# Altium footprint library Bluetechnix_Footprint_CM-BF5xx.PcbLib: 2 footprints
Each footprint in its own frame and in the unit in brackets; x right, y up, seen from the top. Pads: shape width x height; smd on the part's side, far side on the other; paste and mask are expansions set on the pad; w line width, h text height; cw(c..) or ccw(c..) is an arc to the next point about the centre after c.
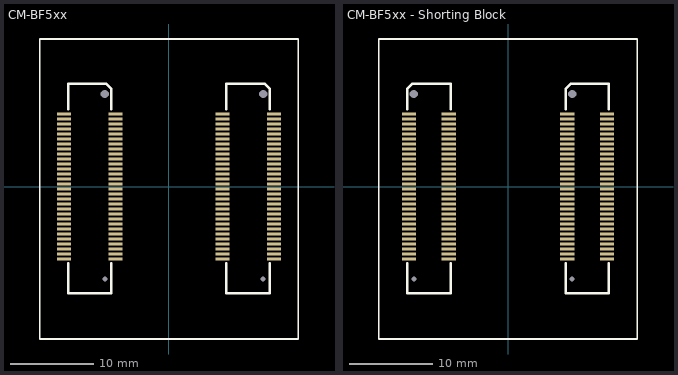
[diagram p0: the footprints below, top view; thin cyan lines are the x and y axes]

## CM-BF5xx [mm] "Blackfin CoreModule 5xx with Hirose Connectors"
height 5
pads (124):
  rect 1.7x0.35 smd: 1(-6.4,8.7) 2(-6.4,8.1) 3(-6.4,7.5) 4(-6.4,6.9) 5(-6.4,6.3) 6(-6.4,5.7) 7(-6.4,5.1) 8(-6.4,4.5) 9(-6.4,3.9) 10(-6.4,3.3) 11(-6.4,2.7) 12(-6.4,2.1) 13(-6.4,1.5) 14(-6.4,0.9) 15(-6.4,0.3) 16(-6.4,-0.3) 17(-6.4,-0.9) 18(-6.4,-1.5) 19(-6.4,-2.1) 20(-6.4,-2.7) 21(-6.4,-3.3) 22(-6.4,-3.9) 23(-6.4,-4.5) 24(-6.4,-5.1) 25(-6.4,-5.7) 26(-6.4,-6.3) 27(-6.4,-6.9) 28(-6.4,-7.5) 29(-6.4,-8.1) 30(-6.4,-8.7) 31(-12.6,-8.7) 32(-12.6,-8.1) 33(-12.6,-7.5) 34(-12.6,-6.9) 35(-12.6,-6.3) 36(-12.6,-5.7) 37(-12.6,-5.1) 38(-12.6,-4.5) 39(-12.6,-3.9) 40(-12.6,-3.3) 41(-12.6,-2.7) 42(-12.6,-2.1) 43(-12.6,-1.5) 44(-12.6,-0.9) 45(-12.6,-0.3) 46(-12.6,0.3) 47(-12.6,0.9) 48(-12.6,1.5) 49(-12.6,2.1) 50(-12.6,2.7) 51(-12.6,3.3) 52(-12.6,3.9) 53(-12.6,4.5) 54(-12.6,5.1) 55(-12.6,5.7) 56(-12.6,6.3) 57(-12.6,6.9) 58(-12.6,7.5) 59(-12.6,8.1) 60(-12.6,8.7) 61(12.6,8.7) 62(12.6,8.1) 63(12.6,7.5) 64(12.6,6.9) 65(12.6,6.3) 66(12.6,5.7) 67(12.6,5.1) 68(12.6,4.5) 69(12.6,3.9) 70(12.6,3.3) 71(12.6,2.7) 72(12.6,2.1) 73(12.6,1.5) 74(12.6,0.9) 75(12.6,0.3) 76(12.6,-0.3) 77(12.6,-0.9) 78(12.6,-1.5) 79(12.6,-2.1) 80(12.6,-2.7) 81(12.6,-3.3) 82(12.6,-3.9) 83(12.6,-4.5) 84(12.6,-5.1) 85(12.6,-5.7) 86(12.6,-6.3) 87(12.6,-6.9) 88(12.6,-7.5) 89(12.6,-8.1) 90(12.6,-8.7) 91(6.4,-8.7) 92(6.4,-8.1) 93(6.4,-7.5) 94(6.4,-6.9) 95(6.4,-6.3) 96(6.4,-5.7) 97(6.4,-5.1) 98(6.4,-4.5) 99(6.4,-3.9) 100(6.4,-3.3) 101(6.4,-2.7) 102(6.4,-2.1) 103(6.4,-1.5) 104(6.4,-0.9) 105(6.4,-0.3) 106(6.4,0.3) 107(6.4,0.9) 108(6.4,1.5) 109(6.4,2.1) 110(6.4,2.7) 111(6.4,3.3) 112(6.4,3.9) 113(6.4,4.5) 114(6.4,5.1) 115(6.4,5.7) 116(6.4,6.3) 117(6.4,6.9) 118(6.4,7.5) 119(6.4,8.1) 120(6.4,8.7)
  round 0 hole 1 unplated: Hole1(-7.7,11.1) Hole1(11.3,11.1)
  round 0 hole 0.6 unplated: Hole2(-7.7,-11.1) Hole2(11.3,-11.1)
Top Overlay:
  lines w0.2: -15.5,-18.3 15.5,-18.3 15.5,17.7 -15.5,17.7 -15.5,-18.3
  lines w0.3: -12.1,-9.2 -12.1,-12.8 -6.9,-12.8 -6.9,-9.2 ; -12.1,9.3 -12.1,12.3 -7.5,12.3 -6.9,11.7 -6.9,9.3 ; 6.9,-9.2 6.9,-12.8 12.1,-12.8 12.1,-9.2 ; 6.9,9.3 6.9,12.3 11.5,12.3 12.1,11.7 12.1,9.3

## CM-BF5xx - Shorting Block [mm] "For jumper board that replaces BF module"
height 5
pads (124):
  rect 1.7x0.35 smd: 1(7.1,8.7) 2(7.1,8.1) 3(7.1,7.5) 4(7.1,6.9) 5(7.1,6.3) 6(7.1,5.7) 7(7.1,5.1) 8(7.1,4.5) 9(7.1,3.9) 10(7.1,3.3) 11(7.1,2.7) 12(7.1,2.1) 13(7.1,1.5) 14(7.1,0.9) 15(7.1,0.3) 16(7.1,-0.3) 17(7.1,-0.9) 18(7.1,-1.5) 19(7.1,-2.1) 20(7.1,-2.7) 21(7.1,-3.3) 22(7.1,-3.9) 23(7.1,-4.5) 24(7.1,-5.1) 25(7.1,-5.7) 26(7.1,-6.3) 27(7.1,-6.9) 28(7.1,-7.5) 29(7.1,-8.1) 30(7.1,-8.7) 31(11.9,-8.7) 32(11.9,-8.1) 33(11.9,-7.5) 34(11.9,-6.9) 35(11.9,-6.3) 36(11.9,-5.7) 37(11.9,-5.1) 38(11.9,-4.5) 39(11.9,-3.9) 40(11.9,-3.3) 41(11.9,-2.7) 42(11.9,-2.1) 43(11.9,-1.5) 44(11.9,-0.9) 45(11.9,-0.3) 46(11.9,0.3) 47(11.9,0.9) 48(11.9,1.5) 49(11.9,2.1) 50(11.9,2.7) 51(11.9,3.3) 52(11.9,3.9) 53(11.9,4.5) 54(11.9,5.1) 55(11.9,5.7) 56(11.9,6.3) 57(11.9,6.9) 58(11.9,7.5) 59(11.9,8.1) 60(11.9,8.7) 61(-11.9,8.7) 62(-11.9,8.1) 63(-11.9,7.5) 64(-11.9,6.9) 65(-11.9,6.3) 66(-11.9,5.7) 67(-11.9,5.1) 68(-11.9,4.5) 69(-11.9,3.9) 70(-11.9,3.3) 71(-11.9,2.7) 72(-11.9,2.1) 73(-11.9,1.5) 74(-11.9,0.9) 75(-11.9,0.3) 76(-11.9,-0.3) 77(-11.9,-0.9) 78(-11.9,-1.5) 79(-11.9,-2.1) 80(-11.9,-2.7) 81(-11.9,-3.3) 82(-11.9,-3.9) 83(-11.9,-4.5) 84(-11.9,-5.1) 85(-11.9,-5.7) 86(-11.9,-6.3) 87(-11.9,-6.9) 88(-11.9,-7.5) 89(-11.9,-8.1) 90(-11.9,-8.7) 91(-7.1,-8.7) 92(-7.1,-8.1) 93(-7.1,-7.5) 94(-7.1,-6.9) 95(-7.1,-6.3) 96(-7.1,-5.7) 97(-7.1,-5.1) 98(-7.1,-4.5) 99(-7.1,-3.9) 100(-7.1,-3.3) 101(-7.1,-2.7) 102(-7.1,-2.1) 103(-7.1,-1.5) 104(-7.1,-0.9) 105(-7.1,-0.3) 106(-7.1,0.3) 107(-7.1,0.9) 108(-7.1,1.5) 109(-7.1,2.1) 110(-7.1,2.7) 111(-7.1,3.3) 112(-7.1,3.9) 113(-7.1,4.5) 114(-7.1,5.1) 115(-7.1,5.7) 116(-7.1,6.3) 117(-7.1,6.9) 118(-7.1,7.5) 119(-7.1,8.1) 120(-7.1,8.7)
  round 0 hole 1 unplated: Hole1(-11.3,11.1) Hole1(7.7,11.1)
  round 0 hole 0.6 unplated: Hole2(-11.3,-11.1) Hole2(7.7,-11.1)
Top Overlay:
  lines w0.2: -15.5,-18.3 15.5,-18.3 15.5,17.7 -15.5,17.7 -15.5,-18.3
  lines w0.3: -12.1,-9.2 -12.1,-12.8 -6.9,-12.8 -6.9,-9.2 ; -12.1,9.3 -12.1,11.7 -11.5,12.3 -6.9,12.3 -6.9,9.3 ; 6.9,-9.2 6.9,-12.8 12.1,-12.8 12.1,-9.2 ; 6.9,9.3 6.9,11.7 7.5,12.3 12.1,12.3 12.1,9.3